# EAGLE library part LED-7-SEGM-56MM (library BigLED7Segm)
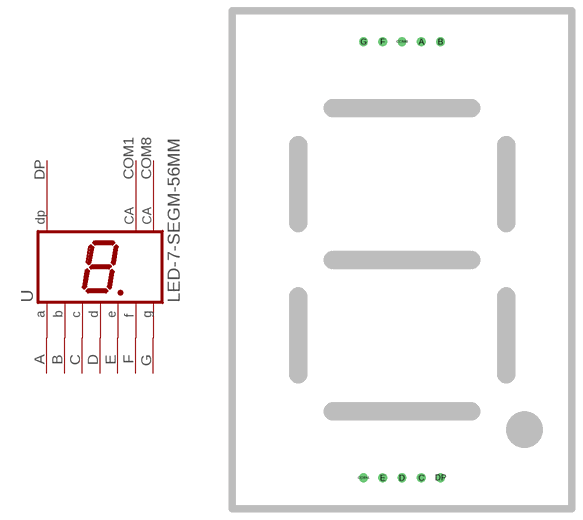
[diagram p0: symbol with the pads of MYTHT; footprint MYTHT]

Designator prefix -

## LED-7-SEGM-56MM  [MYTHT]
A  A  pas
B  B  pas
C  C  pas
COM1  CA1  pas
COM8  CA8  pas
D  D  pas
DP  DP  pas
E  E  pas
F  F  pas
G  G  pas

## Footprint MYTHT (pad centres in mm)
drill 0.7: A 2.654,30.1; B 5.307,30.1; C 2.654,-30.1; COM1 -5.307,-30.1; COM8 0,30.1; D 0,-30.1; DP 5.307,-30.1; E -2.654,-30.1; F -2.654,30.1; G -5.307,30.1